# EAGLE library part V23040-*-B201 (library relay)
SIEMENS Monostabil A0001 = 5V; A0002 = 12V; A0003 = 15V; A0004 = 24V Bistabil C0051 = 5V; C0052 = 12V
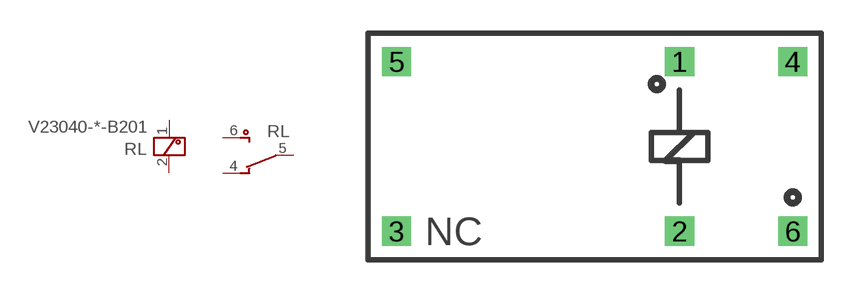
[diagram p37: symbol with the pads of V23040201; footprint V23040201]

Designator prefix RL; gates K=KV K1=UV

## V23040-A0001-B201 (OC_FARNELL: unknown; OC_NEWARK: unknown), V23040-A0002-B201 (MPN: V23040-A0002-B201; OC_FARNELL: 1174994; OC_NEWARK: 24M9075), V23040-A0003-B201 (OC_FARNELL: unknown; OC_NEWARK: unknown), V23040-A0004-B201 (OC_FARNELL: unknown; OC_NEWARK: unknown)  [V23040201]
1  K:1  pas
2  K:2  pas
3  K:3  pas
4  K1:4  pas
5  K1:5  pas
6  K1:6  pas

## Footprint V23040201 (pad centres in mm)
SIEMENS Mono- or Bisatil relay
drill 0.813 pad 1.27 square: 1 3.81,3.81; 2 3.81,-3.81; 3 -8.89,-3.81; 4 8.89,3.81; 5 -8.89,3.81; 6 8.89,-3.81